# Altium footprint library Inductors.PcbLib: 39 footprints (part 3 of 3)
Each footprint in its own frame and in the unit in brackets; x right, y up, seen from the top. Pads: shape width x height; smd on the part's side, far side on the other; paste and mask are expansions set on the pad; w line width, h text height; cw(c..) or ccw(c..) is an arc to the next point about the centre after c.
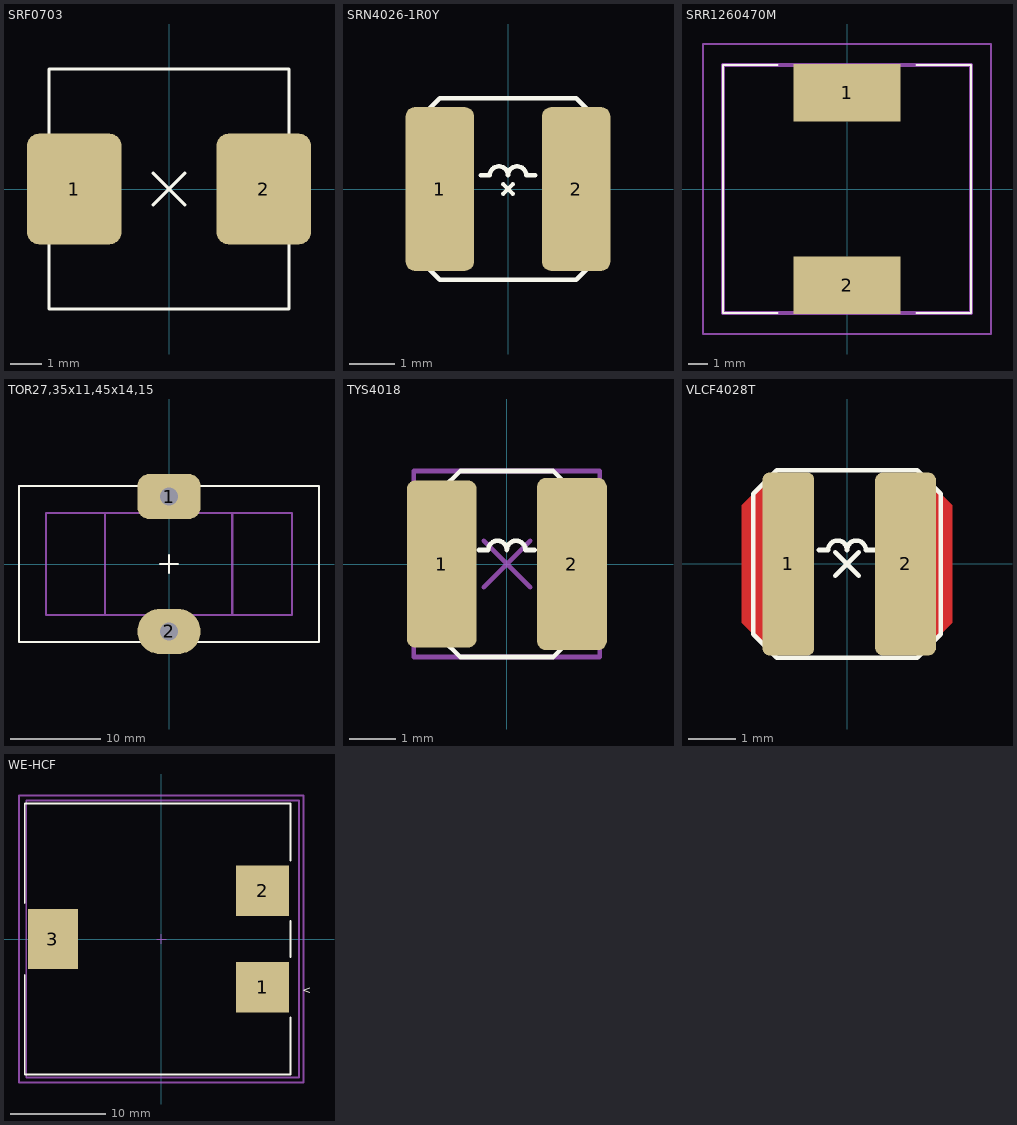
[diagram p2: the footprints below, top view; thin cyan lines are the x and y axes]

## SRF0703 [mm]
pads (2):
  rrect25% 3x3.5 smd: 1(-3,0) 2(3,0)
Top Overlay:
  lines w0.1: -0.5,-0.5 0.5,0.5 ; -0.5,0.5 0.5,-0.5 ; -3.8,-3.8 3.8,-3.8 3.8,3.8 -3.8,3.8 -3.8,-3.8
3D body "User Library-SRF0703-100M (1).step": height 3.4, standoff -0.05, extent -3.8,-3.8 3.8,3.8

## SRN4026-1R0Y [mm]
height 2.5
pads (2):
  rrect25% 1.5x3.6 smd: 1(-1.5,0) 2(1.5,0)
Top Overlay:
  lines w0.1: -0.6,0.3 -0.4,0.3 cw(c-0.2,0.3) 0,0.3 cw(c0.2,0.3) 0.4,0.3 0.6,0.3 ; -0.1,-0.1 0.1,0.1 ; -0.1,0.1 0.1,-0.1 ; -2,-1.5 -1.5,-2 1.5,-2 2,-1.5 2,1.5 1.5,2 -1.5,2 -2,1.5 -2,-1.5
3D body "srn4012t-4r7m.stp": height 1.2, standoff -0.01, extent -2.01,-2.01 2.01,2.01

## SRR1260470M [mm]
pads (2):
  rect 5.4x2.9 smd: 1(0,4.85) 2(0,-4.85)
Top Overlay:
  lines w0.1: -3.5,-6.25 -6.25,-6.25 -6.25,6.25 -3.5,6.25 ; 3.5,-6.25 6.25,-6.25 6.25,6.25 3.5,6.25
Mechanical 13:
  lines w0.2: -6.25,-6.25 -6.25,6.25 6.25,6.25 6.25,-6.25 -6.25,-6.25
Mechanical 15:
  lines w0.1: -7.25,-7.3 -7.25,7.3 7.25,7.3 7.25,-7.3 -7.25,-7.3
3D body "SRR1260-470M.stp": height 6, standoff 0, extent -6.25,-6.25 6.25,6.25

## TOR27,35x11,45x14,15 [mm]
pads (2):
  rrect50% 7x5 hole 2: 1(0,7.5)
  oval 7x5 hole 2: 2(0,-7.5)
Top Overlay:
  lines w0.254: -1,0 1,0 ; 0,-1 0,1 ; -16.675,-8.675 16.675,-8.675 16.675,8.675 -16.675,8.675 -16.675,-8.675
Mechanical 15:
  lines w0.254: -7.125,-5.675 -7.125,5.675 ; 7.025,-5.675 7.025,5.675 ; -16.675,8.675 -16.675,8.675 ; -13.675,-5.675 13.675,-5.675 13.675,5.675 -13.675,5.675 -13.675,-5.675
3D body "User Library-coilD17H9.STEP": height 18.25, standoff -3, extent -9.25,-5 9.25,5

## TYS4018 [mm] "4 mm x 1.8 mm x 4 mm"
pads (2):
  rrect25% 1.5x3.6 smd: 1(-1.4,0)
  rrect25% 1.5x3.7 smd: 2(1.4,0)
Top Overlay:
  lines w0.1: -0.6,0.3 -0.4,0.3 cw(c-0.2,0.3) 0,0.3 cw(c0.2,0.3) 0.4,0.3 0.6,0.3 ; -2,-1.5 -1.875,-1.625 -1.625,-1.625 -1.375,-1.625 -1,-2 1,-2 1.375,-1.625 1.625,-1.625 1.875,-1.625 2,-1.5 2,1.5 1.875,1.625 1.625,1.625 1.375,1.625 1,2 -1,2 -1.375,1.625 -1.625,1.625 -1.875,1.625 -2,1.5 -2,-1.5
Mechanical 15:
  lines w0.1: -0.5,-0.5 0.5,0.5 ; -0.5,0.5 0.5,-0.5 ; -2,-2 2,-2 2,2 -2,2 -2,-2
3D body "69817.stp": height 1.8, standoff 0, extent -2.2,-2 2.2,2

## VLCF4028T [mm]
height 2.8
pads (2):
  rrect25% 1.1x3.9 smd: 1(-1.25,0)
  rrect25% 1.3x3.9 smd: 2(1.25,0)
Top Layer:
  region: 2.25,1.25 2.25,-1.25 1.75,-1.75 1.75,1.75
  region: -2.25,-1.25 -2.25,1.25 -1.75,1.75 -1.75,-1.75
Top Overlay:
  lines w0.1: -0.6,0.3 -0.4,0.3 cw(c-0.2,0.3) 0,0.3 cw(c0.2,0.3) 0.4,0.3 0.6,0.3 ; -0.25,-0.25 0.25,0.25 ; -0.25,0.25 0.25,-0.25 ; -2,-1.5 -2,1.5 -1.5,2 1.5,2 2,1.5 2,-1.5 1.5,-2 -1.5,-2 -2,-1.5
3D body "VLCF4028-4R7.step": height 2.8, standoff 0, extent -2.1,-2 2.1,2

## WE-HCF [mm] "WE-HCF SMT High Current  Inductor"
height 18.5
pads (3):
  rect 5.59x5.33 smd: 1(10.656,-5.075) 2(10.656,5.075)
  rect 5.28x6.35 smd: 3(-11.419,0)
Top Overlay:
  lines w0.2: -14.381,-3.81 -14.381,-14.25 0.119,-14.25 ; -14.381,3.81 -14.381,14.25 13.619,14.25 13.619,8.255 ; -0.359,-14.25 13.619,-14.25 13.619,-8.255 ; 13.619,-1.905 13.619,1.905
  text ">" at 15.804,-5.092 h0.8
Mechanical 13:
  lines w0.2: -14.224,-14.605 14.478,-14.605 14.478,14.605 -14.224,14.605 -14.224,-14.605
Mechanical 15:
  lines w0.1: -0.5,0 0.5,0 ; 0,-0.5 0,0.5
  lines w0.2: -14.986,-15.113 14.986,-15.113 14.986,15.113 -14.986,15.113 -14.986,-15.113
3D body "744364xxxx.stp": height 18.75, standoff 0.25, extent -13.89,-14.25 14.11,14.25